# EAGLE library part 615008185221 (library Eagle_WR-MJ (rev23b))
WR-MJ Modular Jack Horizontal Shielded w. LED and EMI Panel Finger 8P8C Tab Down KIND PROPERTIES Quality Class:750 Mating cycles LED:yellow-green General Information Operating Temperature:-40 up to +85 °C Compliance:Lead free / RoHS Electrical Properties IR1:1.5A Working Voltage: 125 V (AC) Withstanding Voltage:1000V (AC) Contact Resistance:30mΩ RISO:1000 MΩ Material Properties Insulator MateriaL:PBT Insulator Flammability Rating:UL94 V-0 Color:Black Contact Material:Copper Alloy Contact Plating:Selective Gold Contact Type:Stamped Shielding Material:Brass Shielding Plating:Nickel Packaging Properties Packaging:Tray Qty. 70 <https://www.we-online.com/catalog/media/o106787v209%20Family_WR-MJ_615008185221.jpg> Details see: https://www.we-online.com/catalog/en/MJ_HORIZONTAL_SHIELDED_W_LED_AND_EMI_PANEL_FINGER_8P8C_TAB_DOWN/ Updated by Yingchun,Shan 2020-01-02 2020 (C) Würth Elektronik
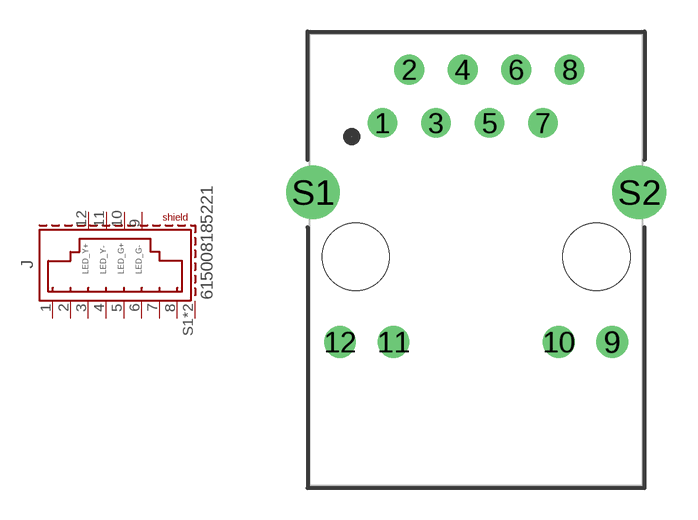
[diagram p1: symbol with the pads of 615008185221; footprint 615008185221]

Designator prefix J

## 615008185221 (DATASHEET-URL: https://www.we-online.com/redexpert/spec/615008185221?ae; LED: yellow-green; MOUNT: THT; PART-NUMBER: 615008185221; TYPE: Horizontal; VALUE: 615008185221; XPXC: 8P8C)  [615008185221]
1  8  pas
2  7  pas
3  6  pas
4  5  pas
5  4  pas
6  3  pas
7  2  pas
8  1  pas
9  G-  pas
10  G+  pas
11  Y-  pas
12  Y+  pas
S1  SHIELD  pas
S2  SHIELD  pas

## Footprint 615008185221 (pad centres in mm)
WR-MJ Modular Jack Horizontal Shielded w. LED and EMI Panel Finger 8P8C Tab Down ,8Pins
drill 0.9: 1 -4.445,6.5; 2 -3.175,9.04; 3 -1.905,6.5; 4 -0.635,9.04; 5 0.635,6.5; 6 1.905,9.04; 7 3.175,6.5; 8 4.445,9.04
drill 1: 9 6.465,-3.91; 10 3.925,-3.91; 11 -3.925,-3.91; 12 -6.465,-3.91
drill 1.7: S1 -7.75,3.2; S2 7.75,3.2
hole 3.2 at -5.715,0.15
hole 3.2 at 5.715,0.15